# Altium footprint library PCB_AtomIC.PcbLib: 2 footprints
Each footprint in its own frame and in the unit in brackets; x right, y up, seen from the top. Pads: shape width x height; smd on the part's side, far side on the other; paste and mask are expansions set on the pad; w line width, h text height; cw(c..) or ccw(c..) is an arc to the next point about the centre after c.
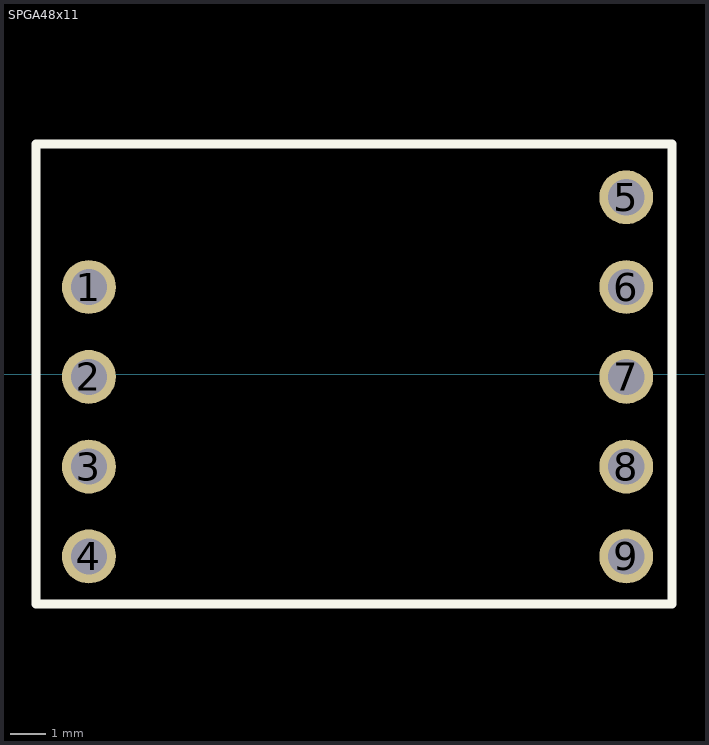
[diagram p0: the footprints below, top view; thin cyan lines are the x and y axes]

## AtomIC [mil]

## SPGA48x11 [mm]
pads (9):
  round 1.524 hole 1.02: 1(9,2.46) 2(9,-0.08) 3(9,-2.62) 4(9,-5.16) 5(24.2,5) 6(24.2,2.46) 7(24.2,-0.08) 8(24.2,-2.62) 9(24.2,-5.16)
Top Overlay:
  lines w0.254: 7.5,-6.5 25.5,-6.5 25.5,6.5 7.5,6.5 7.5,-6.5